# Altium footprint library jhd162g_b_w.PcbLib: 1 footprints
Each footprint in its own frame and in the unit in brackets; x right, y up, seen from the top. Pads: shape width x height; smd on the part's side, far side on the other; paste and mask are expansions set on the pad; w line width, h text height; cw(c..) or ccw(c..) is an arc to the next point about the centre after c.
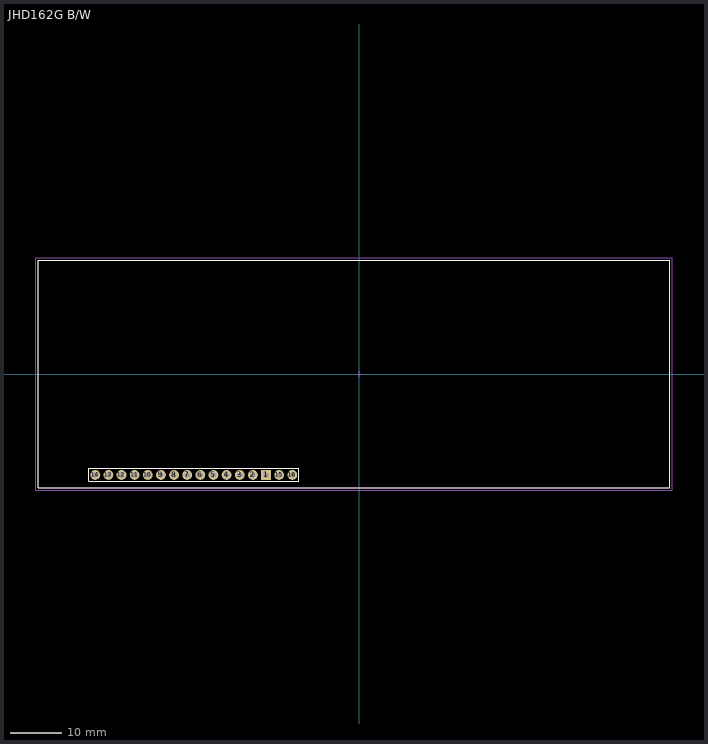
[diagram p0: the footprint, top view; thin cyan lines are the x and y axes]

## JHD162G B/W [mm] "LCD Display 16x2 Characters Blue/White"
height 14
pads (16):
  rect 1.9x1.9 hole 1: 1(-18,-19.5)
  round 1.9 hole 1: 2(-20.54,-19.5) 3(-23.08,-19.5)
  round 1.9 hole 1 mask+0.102: 4(-25.62,-19.5) 5(-28.16,-19.5) 6(-30.7,-19.5) 7(-33.24,-19.5) 8(-35.78,-19.5) 9(-38.32,-19.5) 10(-40.86,-19.5) 11(-43.4,-19.5) 12(-45.94,-19.5) 13(-48.48,-19.5) 14(-51.02,-19.5) 15(-15.46,-19.5) 16(-12.92,-19.5)
Top Overlay:
  lines w0.2: -37.055,-20.775 -11.645,-20.775 -11.645,-18.225 -37.055,-18.225 ; -26.885,-20.775 -52.295,-20.775 -52.295,-18.225 -26.885,-18.225 ; -62,-22 60,-22 60,22 -62,22 -62,-22
Top Comment:
  text ".Comment" at 0.8,23.5 h1.2
Top Designator:
  text ".Designator" at -0.7,23.5 h1.2
Top Component Outline:
  lines w0.1: -62,-22 60,-22 60,22 -62,22 -62,-22
Top Courtyard (Mech15):
  lines w0.05: -62.5,-22.5 -62.5,22.5 60.5,22.5 60.5,-22.5 -62.5,-22.5
  lines w0.1: -0.5,0 0.5,0 ; 0,-0.5 0,0.5
3D body "JHD162G.STEP": height 9.7, standoff -6.29, extent -62,-22 60,22